# Altium schematic symbol library APTB3212SURKCGKC-01.SchLib: 1 symbol
Pins are listed as number, name and electrical type; pins without a type are passive.

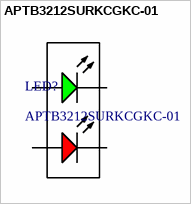
[diagram p0: symbol APTB3212SURKCGKC-01]

## APTB3212SURKCGKC-01
designator LED?
Dual Color LED; Manufacturer: Kingbright; Supplier: Mouser; Supplier Part Number: 604-APTB3212SURKCGKC; Manufacturer Part Number: APTB3212SURKCGKC-01; RoHS: Yes; Category: LEDs; Stock: 2181; Pricing: 1=0.59, 10=0.409, 50=0.409, 100=0.295, 500=0.243, 1000=0.226, 2000=0.222, 4000=0.195, 10000=0.18, 24000=0.173 (USD); RoHS Compliant: Yes; ComponentLink1URL: https://datasheet.ciiva.com:443/pdfs/VipMasterIC/IC/KBEC/KBEC-S-A0008946974/KBEC-S-A0008946997-1.pdf?src-supplier=IHS+Markit; ComponentLink1Description: https://datasheet.ciiva.com:443/pdfs/VipMasterIC/IC/KBEC/KBEC-S-A0008946974/KBEC-S-A0008946997-1.pdf?src-supplier=IHS+Markit; Supplier 1: Digikey; Supplier Part Number 1: 754-APTB3212SURKCGKC-01CT-ND
footprint APTB3212SURKCGKC-01
pins: 1 K, 2 A, 3 A, 4 K